# Altium footprint library Mechanical.PcbLib: 37 footprints (part 1 of 3)
Each footprint in its own frame and in the unit in brackets; x right, y up, seen from the top. Pads: shape width x height; smd on the part's side, far side on the other; paste and mask are expansions set on the pad; w line width, h text height; cw(c..) or ccw(c..) is an arc to the next point about the centre after c.
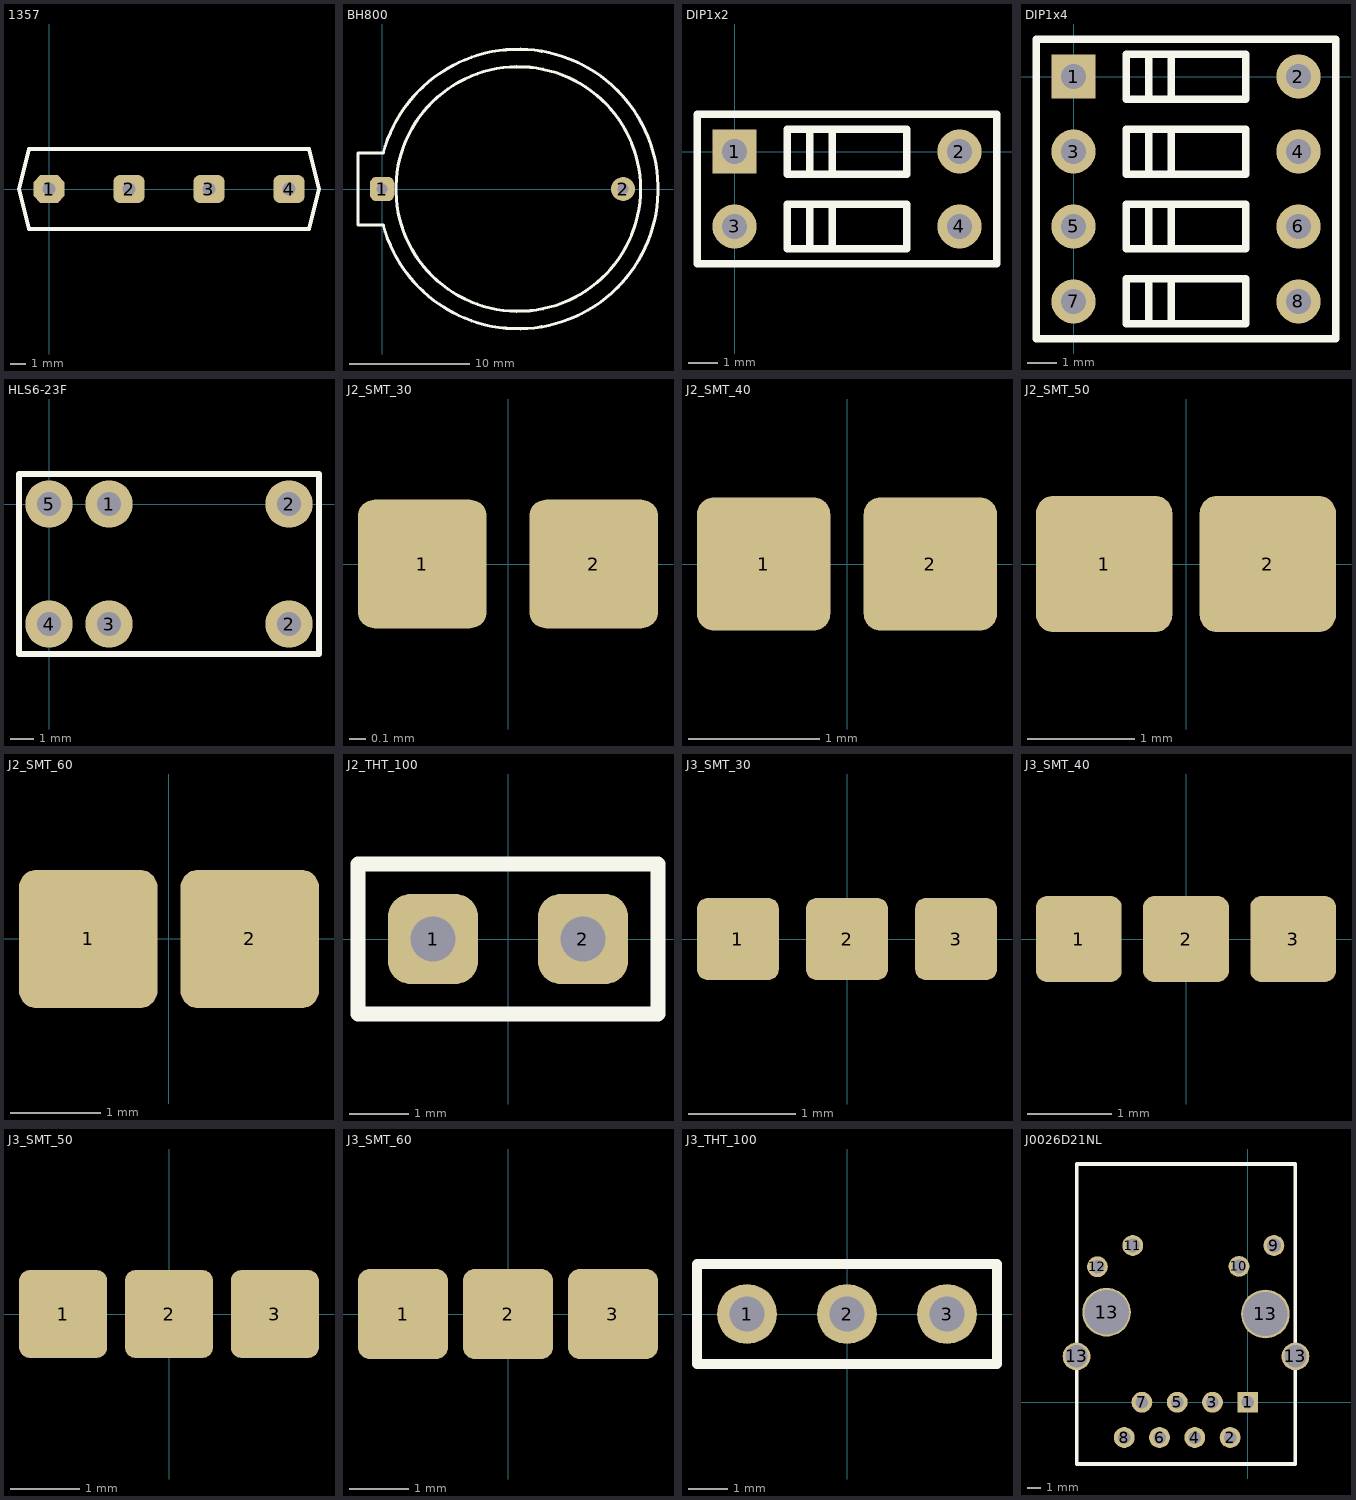
[diagram p0: the footprints below, top view; thin cyan lines are the x and y axes]

## 1357 [mm]
height 7
pads (4):
  oct 2x1.8 hole 0.8: 1(0,0)
  rrect50% 2x1.8 hole 0.8: 2(5.08,0) 3(10.16,0) 4(15.24,0)
Top Overlay:
  lines w0.254: -1.905,0 -1.27,-2.54 16.51,-2.54 17.145,0 16.51,2.54 -1.27,2.54 -1.905,0
3D body: height 7, standoff 0, extent -1.905,-2.54 17.145,2.54

## BH800 [mm]
height 8.2
pads (2):
  rrect50% 2x2 hole 0.9: 1(0,0)
  round 2 hole 0.9: 2(20,0)
Top Overlay:
  circle w0.254: c11.3,0 r10.15
  lines w0.254: 0.095,-3.001 ccw(c11.3,0) 0.095,3.001 ; 0.1,-3 -2,-3 -2,3 0.1,3

## DIP1x2 [mm] "DIP switch 1 pole 2 pairs"
height 1.524
pads (4):
  rect 1.5x1.5 hole 0.85: 1(0,0)
  round 1.5 hole 0.85: 2(7.62,0) 3(0,-2.54) 4(7.62,-2.54)
Top Overlay:
  lines w0.254: 2.54,-3.302 2.54,-1.778 ; 2.54,-0.762 2.54,0.762 ; 3.302,-3.302 3.302,-1.778 ; 3.302,-0.762 3.302,0.762 ; -1.27,-3.81 8.89,-3.81 8.89,1.27 -1.27,1.27 -1.27,-3.81 ; 1.778,-3.302 5.842,-3.302 5.842,-1.778 1.778,-1.778 1.778,-3.302 ; 1.778,-0.762 1.778,0.762 5.842,0.762 5.842,-0.762 1.778,-0.762

## DIP1x4 [mm] "DIP switch 1 pole 4 pairs"
height 1.524
pads (8):
  rect 1.5x1.5 hole 0.85: 1(0,0)
  round 1.5 hole 0.85: 2(7.62,0) 3(0,-2.54) 4(7.62,-2.54) 5(0,-5.08) 6(7.62,-5.08) 7(0,-7.62) 8(7.62,-7.62)
Top Overlay:
  lines w0.254: 2.54,-8.382 2.54,-6.858 ; 2.54,-5.842 2.54,-4.318 ; 2.54,-3.302 2.54,-1.778 ; 2.54,-0.762 2.54,0.762 ; 3.302,-8.382 3.302,-6.858 ; 3.302,-5.842 3.302,-4.318 ; 3.302,-3.302 3.302,-1.778 ; 3.302,-0.762 3.302,0.762 ; -1.27,-8.89 8.89,-8.89 8.89,1.27 -1.27,1.27 -1.27,-8.89 ; 1.778,-8.382 1.778,-6.858 5.842,-6.858 5.842,-8.382 1.778,-8.382 ; 1.778,-5.842 5.842,-5.842 5.842,-4.318 1.778,-4.318 1.778,-5.842 ; 1.778,-3.302 5.842,-3.302 5.842,-1.778 1.778,-1.778 1.778,-3.302 ; 1.778,-0.762 1.778,0.762 5.842,0.762 5.842,-0.762 1.778,-0.762

## HLS6-23F [mm] "Single Pole Double Throw Relay"
height 10
pads (6):
  round 2 hole 1: 1(2.54,0) 2(10.16,-5.08) 2(10.16,0) 3(2.54,-5.08) 4(0,-5.08) 5(0,0)
Top Overlay:
  lines w0.254: -1.27,-6.35 11.43,-6.35 11.43,1.27 -1.27,1.27 -1.27,-6.35
3D body: height 10, standoff 0, extent -1.27,-6.35 11.43,1.27

## J2_SMT_30 [mil] "Jumper 2 SMT 30 mil"
pads (2):
  rrect25% 30x30 smd: 1(-20,0) 2(20,0)
Top Solder:
  rectangle: -7,-15 7,15

## J2_SMT_40 [mil] "Jumper 2 SMT 40 mil"
pads (2):
  rrect25% 40x40 smd: 1(-25,0) 2(25,0)
Top Solder:
  rectangle: -8,-20 9,20

## J2_SMT_50 [mil] "Jumper 2 SMT 50 mil"
pads (2):
  rrect25% 50x50 smd: 1(-30,0) 2(30,0)
Top Solder:
  rectangle: -10,-25 8,25

## J2_SMT_60 [mil] "Jumper 2 SMT 60 mil"
pads (2):
  rrect25% 60x60 smd: 1(-35,0) 2(35,0)
Top Solder:
  rectangle: -17,-30 14,30

## J2_THT_100 [mil] "Jumper 2 THT 100 mil base"
pads (2):
  rrect50% 60x60 hole 30: 1(-50,0) 2(50,0)
Top Overlay:
  lines w10: -100,-50 100,-50 100,50 -100,50 -100,-50

## J3_SMT_30 [mil] "Jumper 3 SMT 30 mil"
pads (3):
  rrect25% 30x30 smd: 1(-40,0) 2(0,0) 3(40,0)
Top Solder:
  rectangle: -29,-15 -12,15
  rectangle: 11,-15 28,15

## J3_SMT_40 [mil] "Jumper 3 SMT 40 mil"
pads (3):
  rrect25% 40x40 smd: 1(-50,0) 2(0,0) 3(50,0)
Top Solder:
  rectangle: 13,-20 33,20
  rectangle: -35,-20 -15,20

## J3_SMT_50 [mil] "Jumper 3 SMT 50 mil"
pads (3):
  rrect25% 50x50 smd: 1(-60,0) 2(0,0) 3(60,0)
Top Solder:
  rectangle: -42,-25 -18,25
  rectangle: 18,-25 42,25

## J3_SMT_60 [mil] "Jumper 3 SMT 60 mil"
pads (3):
  rrect25% 60x60 smd: 1(-70,0) 2(0,0) 3(70,0)
Top Solder:
  rectangle: -48,-29 -24,29
  rectangle: 23,-29 47,29

## J3_THT_100 [mil] "Jumper 3 THT 100 mil base"
pads (3):
  round 60 hole 35.43: 1(-100,0) 2(0,0) 3(100,0)
Top Overlay:
  lines w10: -150,-50 150,-50 150,50 -150,50 -150,-50

## J0026D21NL [mm] "Ethernet twisted pair connector with magnetics and leds"
height 1.524
pads (16):
  rect 1.5x1.5 hole 0.9: 1(0,0)
  round 1.5 hole 0.9: 2(-1.27,-2.54) 3(-2.54,0) 4(-3.81,-2.54) 5(-5.08,0) 6(-6.35,-2.54) 7(-7.62,0) 8(-8.89,-2.54)
  round 1.5 hole 1: 9(1.88,11.278) 10(-0.635,9.779) 11(-8.28,11.278) 12(-10.82,9.754)
  round 2 hole 1.6 paste+0: 13(-12.319,3.302) 13(3.429,3.302)
  round 3.5 hole 3.2 paste+0: 13(-10.16,6.477) 13(1.27,6.35)
Top Overlay:
  lines w0.254: 2.54,17.145 3.302,17.145 ; -12.319,-4.445 3.429,-4.445 3.429,17.145 -12.319,17.145 -12.319,-4.318 -12.319,-4.445